# Altium footprint library EAGLE-ISOLATED_CONVERTER-rev16e.PCBLIB: 9 footprints
Each footprint in its own frame and in the unit in brackets; x right, y up, seen from the top. Pads: shape width x height; smd on the part's side, far side on the other; paste and mask are expansions set on the pad; w line width, h text height; cw(c..) or ccw(c..) is an arc to the next point about the centre after c.
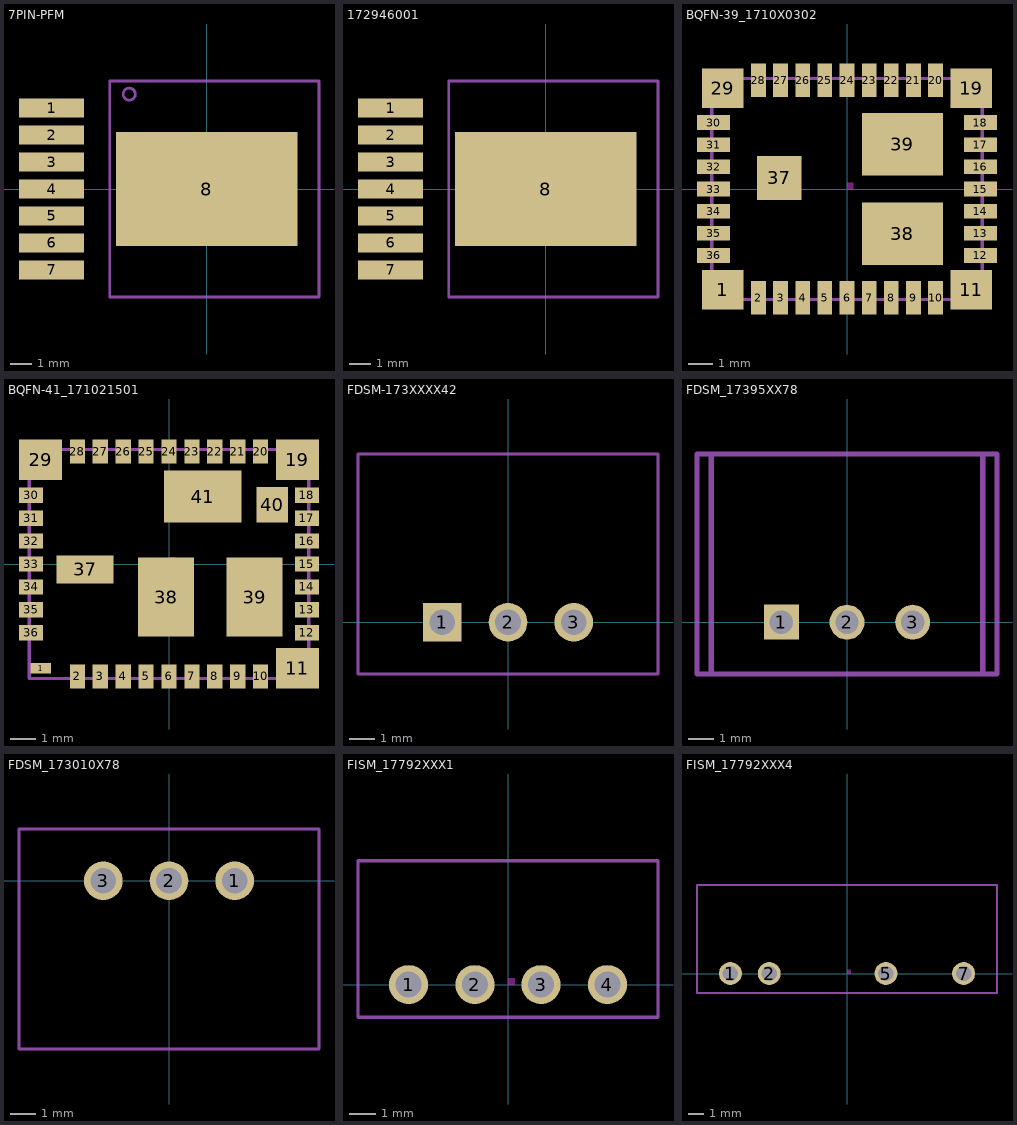
[diagram p0: the footprints below, top view; thin cyan lines are the x and y axes]

## 7PIN-PFM [mm]
pads (8):
  rect 3.06x0.89 smd: 1(-7.305,3.81) 2(-7.305,2.54) 3(-7.305,1.27) 4(-7.305,0) 5(-7.305,-1.27) 6(-7.305,-2.54) 7(-7.305,-3.81)
  rect 8.54x5.35 smd paste-4.27: 8(0,0)
Top Paste:
  region: 0,0 0.254,0 0.254,0.254 0,0.254
  region: 0,0 0.254,0 0.254,0.254 0,0.254
  region: 0,0 0.254,0 0.254,0.254 0,0.254
  region: 0,0 0.254,0 0.254,0.254 0,0.254
  region: 0,0 0.254,0 0.254,0.254 0,0.254
  region: 0,0 0.254,0 0.254,0.254 0,0.254
Keep-Out Layer:
  region: 0,0 0.254,0 0.254,0.254 0,0.254
Mechanical 2:
  circle w0.127: c-3.649,4.464 r0.284
  lines w0.127: -4.569,-3.224 -4.57,5.08 5.28,5.08 5.28,-5.08 -4.57,-5.08 -4.57,-2.975

## 172946001 [mm]
pads (8):
  rect 3.06x0.89 smd: 1(-7.305,3.81) 2(-7.305,2.54) 3(-7.305,1.27) 4(-7.305,0) 5(-7.305,-1.27) 6(-7.305,-2.54) 7(-7.305,-3.81)
  rect 8.54x5.35 smd paste-4.27: 8(0,0)
Top Paste:
  region: 0,0 0.254,0 0.254,0.254 0,0.254
  region: 0,0 0.254,0 0.254,0.254 0,0.254
  region: 0,0 0.254,0 0.254,0.254 0,0.254
  region: 0,0 0.254,0 0.254,0.254 0,0.254
  region: 0,0 0.254,0 0.254,0.254 0,0.254
  region: 0,0 0.254,0 0.254,0.254 0,0.254
Keep-Out Layer:
  region: 0,0 0.254,0 0.254,0.254 0,0.254
Mechanical 2:
  lines w0.127: -4.57,-5.08 5.28,-5.08 5.28,5.08 -4.57,5.08 -4.57,-5.08

## BQFN-39_1710X0302 [mm]
pads (39):
  rect 1.7x1.6 smd paste-0.85: 1(-5.05,-4.1) 11(5.05,-4.1) 19(5.05,4.1) 29(-5.05,4.1)
  rect 0.6x1.35 smd paste-0.675: 2(-3.6,-4.425) 3(-2.7,-4.425) 4(-1.8,-4.425) 5(-0.9,-4.425) 6(0,-4.425) 7(0.9,-4.425) 8(1.8,-4.425) 9(2.7,-4.425) 10(3.6,-4.425) 20(3.6,4.425) 21(2.7,4.425) 22(1.8,4.425) 23(0.9,4.425) 24(0,4.425) 25(-0.9,4.425) 26(-1.8,4.425) 27(-2.7,4.425) 28(-3.6,4.425)
  rect 1.35x0.6 smd paste-0.675: 12(5.425,-2.7) 13(5.425,-1.8) 14(5.425,-0.9) 15(5.425,0) 16(5.425,0.9) 17(5.425,1.8) 18(5.425,2.7) 30(-5.425,2.7) 31(-5.425,1.8) 32(-5.425,0.9) 33(-5.425,0) 34(-5.425,-0.9) 35(-5.425,-1.8) 36(-5.425,-2.7)
  rect 1.8x1.8 smd paste-0.9: 37(-2.76,0.45)
  rect 3.3x2.56 smd paste-1.65: 38(2.25,-1.82)
  rect 3.3x2.55 smd paste-1.65: 39(2.25,1.825)
Top Paste:
  drawing of 48 lines, arcs and shapes, not listed
Keep-Out Layer:
  region: 0,0 0.254,0 0.254,0.254 0,0.254
Mechanical 18:
  lines w0.127: -5.5,-4.5 5.5,-4.5 5.5,4.5 -5.5,4.5 -5.5,-4.5

## BQFN-41_171021501 [mm]
pads (41):
  rect 0.813x0.406 smd: 1(-5.05,-4.1)
  rect 0.6x0.95 smd: 2(-3.6,-4.425) 3(-2.7,-4.425) 4(-1.8,-4.425) 5(-0.9,-4.425) 6(0,-4.425) 7(0.9,-4.425) 8(1.8,-4.425) 9(2.7,-4.425) 10(3.6,-4.425) 20(3.6,4.425) 21(2.7,4.425) 22(1.8,4.425) 23(0.9,4.425) 24(0,4.425) 25(-0.9,4.425) 26(-1.8,4.425) 27(-2.7,4.425) 28(-3.6,4.425)
  rect 1.7x1.6 smd: 11(5.05,-4.1) 19(5.05,4.1) 29(-5.05,4.1)
  rect 0.95x0.6 smd: 12(5.425,-2.7) 13(5.425,-1.8) 14(5.425,-0.9) 15(5.425,0) 16(5.425,0.9) 17(5.425,1.8) 18(5.425,2.7) 30(-5.425,2.7) 31(-5.425,1.8) 32(-5.425,0.9) 33(-5.425,0) 34(-5.425,-0.9) 35(-5.425,-1.8) 36(-5.425,-2.7)
  rect 2.25x1.1 smd: 37(-3.3,-0.21)
  rect 2.2x3.1 smd: 38(-0.11,-1.3) 39(3.37,-1.3)
  rect 1.24x1.4 smd: 40(4.06,2.33)
  rect 3.05x2.04 smd: 41(1.32,2.65)
Top Layer:
  region: 0,0 0.254,0 0.254,0.254 0,0.254
Top Paste:
  region: 0,0 0.254,0 0.254,0.254 0,0.254
Top Solder:
  region: 0,0 0.254,0 0.254,0.254 0,0.254
Keep-Out Layer:
  region: 0,0 0.254,0 0.254,0.254 0,0.254
Mechanical 18:
  lines w0.127: -5.5,-4.5 -5.5,4.5 5.5,4.5 5.5,-4.5 -5.5,-4.5

## FDSM-173XXXX42 [mm]
pads (3):
  rect 1.5x1.5 hole 1: 1(-2.54,0)
  round 1.5 hole 1: 2(0,0) 3(2.54,0)
Keep-Out Layer:
  region: 0,0 0.254,0 0.254,0.254 0,0.254
Mechanical 2:
  lines w0.127: -5.8,-2 5.8,-2 5.8,6.5 -5.8,6.5 -5.8,-2

## FDSM_17395XX78 [mm]
pads (3):
  rect 1.35x1.35 hole 0.9: 1(-2.54,0)
  round 1.35 hole 0.9: 2(0,0) 3(2.54,0)
Keep-Out Layer:
  region: 0,0 0.254,0 0.254,0.254 0,0.254
Mechanical 2:
  lines w0.2: -5.25,-2 -5.25,6.5 ; 5.25,-2 5.25,6.5 ; -5.8,-2 5.8,-2 5.8,6.5 -5.8,6.5 -5.8,-2

## FDSM_173010X78 [mm]
pads (3):
  round 1.5 hole 1: 1(2.54,0) 2(0,0) 3(-2.54,0)
Keep-Out Layer:
  region: 0,0 0.254,0 0.254,0.254 0,0.254
Mechanical 2:
  lines w0.127: -5.8,-6.5 5.8,-6.5 5.8,2 -5.8,2 -5.8,-6.5

## FISM_17792XXX1 [mm]
pads (4):
  round 1.5 hole 1: 1(-3.81,0) 2(-1.27,0) 3(1.27,0) 4(3.81,0)
Keep-Out Layer:
  region: 0,0 0.254,0 0.254,0.254 0,0.254
Mechanical 2:
  lines w0.127: -5.75,-1.25 -5.75,4.75 5.75,4.75 5.75,-1.25 -5.75,-1.25
3D body: height 10, standoff 0.51, extent -5.75,-1.25 5.75,4.75

## FISM_17792XXX4 [mm]
pads (4):
  round 1.5 hole 1: 1(-7.62,0) 2(-5.08,0) 5(2.54,0) 7(7.62,0)
Keep-Out Layer:
  region: 0,0 0.254,0 0.254,0.254 0,0.254
Mechanical 2:
  lines w0.127: -9.8,-1.27 9.8,-1.27 9.8,5.78 -9.8,5.78 -9.8,-1.27